# Altium footprint library CDR33BX104AKWSAT.PcbLib: 2 footprints
Each footprint in its own frame and in the unit in brackets; x right, y up, seen from the top. Pads: shape width x height; smd on the part's side, far side on the other; paste and mask are expansions set on the pad; w line width, h text height; cw(c..) or ccw(c..) is an arc to the next point about the centre after c.
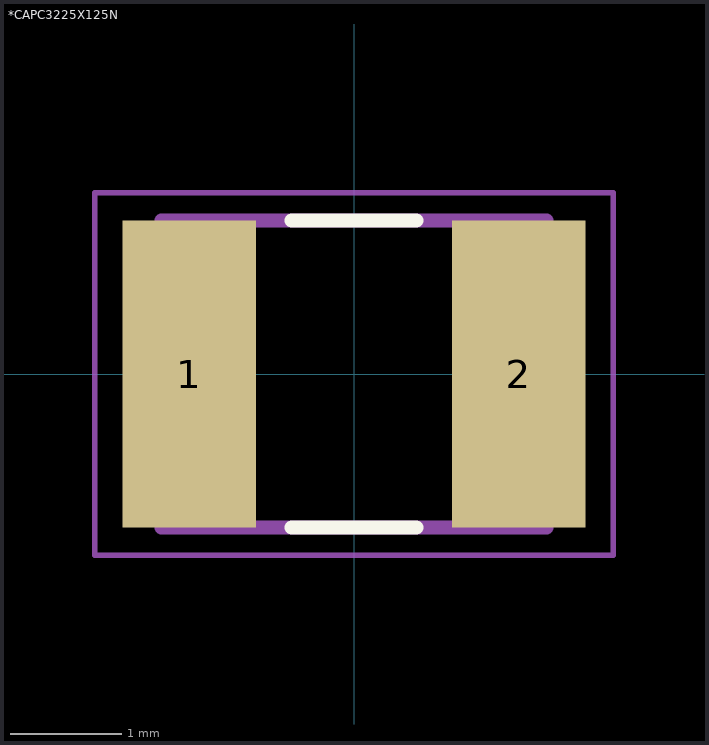
[diagram p0: the footprints below, top view; thin cyan lines are the x and y axes]

## *CAPC3225X125N [mm]
pads (2):
  rect 1.2x2.76 smd: 1(-1.481,0) 2(1.481,0)
Top Overlay:
  lines w0.127: -0.56,-1.38 0.56,-1.38 ; -0.56,1.38 0.56,1.38
Mechanical 4:
  lines w0.127: -1.73,-1.38 -1.73,1.38 ; -1.73,-1.38 1.73,-1.38 ; -1.73,-1.38 -1.73,1.38 ; -1.73,-1.38 1.73,-1.38 ; -1.73,1.38 1.73,1.38 ; -1.73,1.38 1.73,1.38 ; 1.73,-1.38 1.73,1.38 ; 1.73,-1.38 1.73,1.38
Mechanical 16:
  lines w0.05: -2.331,-1.631 -2.331,1.631 2.331,1.631 2.331,-1.631 -2.331,-1.631

## PCBComponent_1 [mm]